# EAGLE library part ATTINY1634 (library atmel_sam)
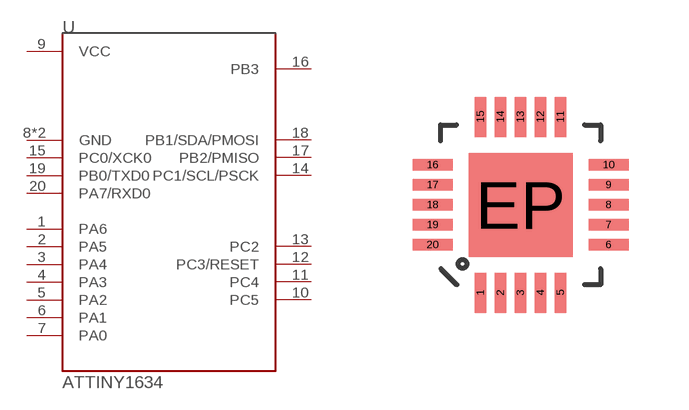
[diagram p5: symbol with the pads of QFN-20; footprint QFN-20]

Designator prefix U

## ATTINY1634  [QFN-20]
1  PA6
2  PA5
3  PA4
4  PA3
5  PA2
6  PA1
7  PA0
8  GND
9  VCC
10  PC5
11  PC4
12  PC3/RESET
13  PC2
14  PC1/SCL/PSCK
15  PC0/XCK0
16  PB3
17  PB2/PMISO
18  PB1/SDA/PMOSI
19  PB0/TXD0
20  PA7/RXD0
EP  GND

## Footprint QFN-20 (pad centres in mm)
smd 0.285 x 1: 1 -1,-2.2; 2 -0.5,-2.2; 3 0,-2.2; 4 0.5,-2.2; 5 1,-2.2; 11 1,2.2; 12 0.5,2.2; 13 0,2.2; 14 -0.5,2.2; 15 -1,2.2
smd 1 x 0.285: 6 2.2,-1; 7 2.2,-0.5; 8 2.2,0; 9 2.2,0.5; 10 2.2,1; 16 -2.2,1; 17 -2.2,0.5; 18 -2.2,0; 19 -2.2,-0.5; 20 -2.2,-1
smd 2.6 x 2.6: EP 0,0